# Altium footprint library LED.PcbLib: 1 footprints
Each footprint in its own frame and in the unit in brackets; x right, y up, seen from the top. Pads: shape width x height; smd on the part's side, far side on the other; paste and mask are expansions set on the pad; w line width, h text height; cw(c..) or ccw(c..) is an arc to the next point about the centre after c.
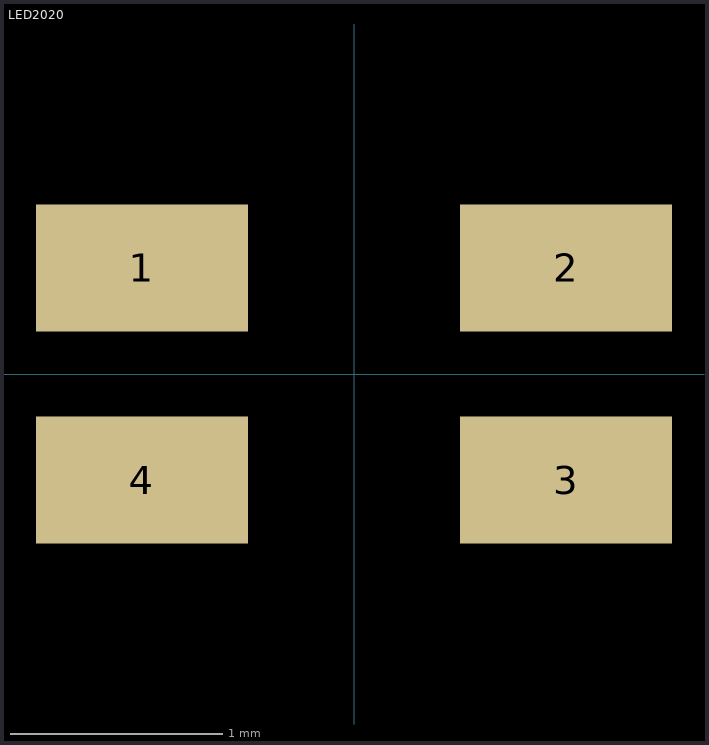
[diagram p0: the footprint, top view; thin cyan lines are the x and y axes]

## LED2020 [mm]
pads (4):
  rect 1x0.6 smd: 1(-1,0.5) 2(1,0.5) 3(1,-0.5) 4(-1,-0.5)
3D body "led2121.sldprt": height 1, standoff 0, extent -1,-1 1,1